# EAGLE library part ACS*? (library Display_LED)
Single Digit Numeric Display - 7-SEG, (0.2”, 0.3, 0.4, 0.8”) Character size, RED 10SMD 0.2 inch: Common Anode Datasheet <https://www.kingbrightusa.com/images/catalog/SPEC/ACSA02-41SURKWA-F01.pdf> and Common Cathode Datasheet <https://www.kingbrightusa.com/images/catalog/SPEC/ACSC02-41SURKWA-F01.pdf> 0.3 inch: Common Anode Datasheet <https://www.kingbrightusa.com/images/catalog/SPEC/ACSA03-41SRWA-F01.pdf> and Common Cathode Datasheet <https://www.kingbrightusa.com/images/catalog/SPEC/ACSC03-41SRWA-F01.pdf> 0.4 inch: Common Anode Datasheet <https://www.kingbrightusa.com/images/catalog/SPEC/ACSA04-41SRWA-F01.pdf> and Common Cathode Datasheet <https://www.kingbrightusa.com/images/catalog/SPEC/ACSC04-41SRWA-F01.pdf> 0.8 inch: Common Anode Datasheet <https://www.kingbrightusa.com/images/catalog/SPEC/ACSA08-51SURKWA.pdf> and Common Cathode Datasheet <https://www.kingbrightusa.com/images/catalog/SPEC/ACSC08-51SURKWA.pdf>
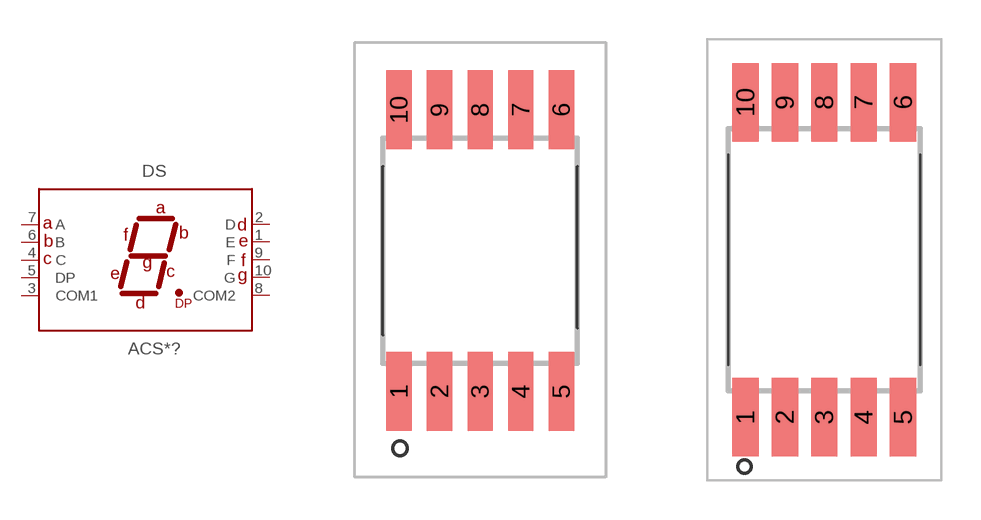
[diagram p3: symbol with the pads of ACSA0241SURKWAF01; footprints ACSA0241SURKWAF01, ACSA0341SRWAF01]

Designator prefix DS

## ACSA02-41SURKWA-F01 (CATEGORY: Display; COLOUR: RED; CONFIGURATION: COMMON ANODE; DESCRIPTION: DISPLAY 7-SEG 0.2" SGL RED 10SMD; DIGIT: Single; DIGIT_HEIGHT: 0.2inch; MANUFACTURER: Kingbright; MPN: ACSA02-41SURKWA-F01; OPERATING_TEMPERATURE: -40°C To +85°C; PART_STATUS: ACTIVE; ROHS_COMPLIANT: COMPLIANT; SERIES: -; SUB_CATEGORY: LED; TYPE: 7-Segment; VALUE: ACSA02-41), ACSC02-41SURKWA-F01 (CATEGORY: Display; COLOUR: RED; CONFIGURATION: COMMON CATHODE; DESCRIPTION: DISPLAY 7-SEG 0.2" SGL RED 10SMD; DIGIT: Single; DIGIT_HEIGHT: 0.2inch; MANUFACTURER: Kingbright; MPN: ACSC02-41SURKWA-F01; OPERATING_TEMPERATURE: -40°C To +85°C; PART_STATUS: ACTIVE; ROHS_COMPLIANT: COMPLIANT; SERIES: -; SUB_CATEGORY: LED; TYPE: 7-Segment; VALUE: ACSC02-41)  [ACSA0241SURKWAF01]
1  E
2  D
3  COM1
4  C
5  DP
6  B
7  A
8  COM2
9  F
10  G

## ACSA03-41SRWA-F01 (CATEGORY: Display; COLOUR: RED; CONFIGURATION: COMMON ANODE; DIGIT: Single; DIGIT_HEIGHT: 0.3inch; MANUFACTURER: Kingbright; MPN: ACSA03-41SRWA-F01; OPERATING_TEMPERATURE: -40°C To +85°C; PART_STATUS: ACTIVE; ROHS_COMPLIANT: COMPLIANT; SERIES: -; SUB_CATEGORY: LED; TYPE: 7-Segment; VALUE: ACSA03-41), ACSC03-41SRWA-F01 (CATEGORY: Display; COLOUR: RED; CONFIGURATION: COMMON CATHODE; DIGIT: Single; DIGIT_HEIGHT: 0.3inch; MANUFACTURER: Kingbright; MPN: ACSC03-41SRWA-F01; OPERATING_TEMPERATURE: -40°C To +85°C; PART_STATUS: ACTIVE; ROHS_COMPLIANT: COMPLIANT; SERIES: -; SUB_CATEGORY: LED; TYPE: 7-Segment; VALUE: ACSC03-41)  [ACSA0341SRWAF01]
Pads as for ACSA0241SURKWAF01

## ACSA04-41SRWA-F01 (CATEGORY: Display; COLOUR: RED; CONFIGURATION: Common Anode; DESCRIPTION: DISPLAY 7-SEG 0.4" SGL RED 10SMD; DIGIT: Single; DIGIT_HEIGHT: 0.4inch; MANUFACTURER: Kingbright; MPN: ACSA04-41SRWA-F01; OPERATING_TEMPERATURE: - 40 C to 85 C; PART_STATUS: ACTIVE; ROHS_COMPLIANT: COMPLIANT; SERIES: -; SUB_CATEGORY: LED; TYPE: 7-Segment; VALUE: ACSA04-41), ACSC04-41SRWA-F01 (CATEGORY: Display; COLOUR: RED; CONFIGURATION: Common Cathode; DESCRIPTION: DISPLAY 7-SEG 0.4" SGL RED 10SMD; DIGIT: Single; DIGIT_HEIGHT: 0.4inch; MANUFACTURER: Kingbright; MPN: ACSC04-41SRWA-F01; OPERATING_TEMPERATURE: - 40 C to 85 C; PART_STATUS: ACTIVE; ROHS_COMPLIANT: COMPLIANT; SERIES: -; SUB_CATEGORY: LED; TYPE: 7-Segment; VALUE: ACSC04-41)  [ACSA0441SRWAF01]
Pads as for ACSA0241SURKWAF01

## ACSA08-51SURKWA (CATEGORY: Displays; COLOUR: RED; CONFIGURATION: Common Anode; DESCRIPTION: DISPLAY 7-SEG 0.8" SGL RED 10SMD; DIGIT: Single; MANUFACTURER: Kingbright; MPN: ACSA08-51SURKWA; OPERATING_TEMPERATURE: -40 C to 85 C; PART_STATUS: ACTIVE; ROHS_COMPLIANT: COMPLIANT; SERIES: -; SUB_CATEGORY: LED; TYPE: 7-Segment; VALUE: ACSA08-51), ACSC08-51SURKWA (CATEGORY: Displays; COLOUR: RED; CONFIGURATION: Common Cathode; DESCRIPTION: DISPLAY 7-SEG 0.8" SGL RED 10SMD; DIGIT: Single; MANUFACTURER: Kingbright; MPN: ACSC08-51SURKWA; OPERATING_TEMPERATURE: -40 C to 85 C; PART_STATUS: ACTIVE; ROHS_COMPLIANT: COMPLIANT; SERIES: -; SUB_CATEGORY: LED; TYPE: 7-Segment; VALUE: ACSC08-51)  [ACSA0851SURKWA]
1  COM1
2  D
3  E
4  C
5  DP
6  COM2
7  A
8  B
9  F
10  G

## Footprint ACSA0241SURKWAF01 (pad centres in mm)
ACSA02-41SURKWA-F01-1
smd 0.9 x 2.8: 1 -2.88,-5; 2 -1.44,-5; 3 0,-5; 4 1.44,-5; 5 2.88,-5; 6 2.88,5; 7 1.44,5; 8 0,5; 9 -1.44,5; 10 -2.88,5

## Footprint ACSA0341SRWAF01 (pad centres in mm)
ACSA02-41SURKWA-F01-1
smd 1 x 3: 1 -3,-6; 2 -1.5,-6; 3 0,-6; 4 1.5,-6; 5 3,-6; 6 3,6; 7 1.5,6; 8 0,6; 9 -1.5,6; 10 -3,6

## Footprint ACSA0441SRWAF01 (pad centres in mm)
ACSA02-41SURKWA-F01-1
smd 1.2 x 3: 1 -3.76,-7.5; 2 -1.88,-7.5; 3 0,-7.5; 4 1.88,-7.5; 5 3.76,-7.5; 6 3.76,7.5; 7 1.88,7.5; 8 0,7.5; 9 -1.88,7.5; 10 -3.76,7.5

## Footprint ACSA0851SURKWA (pad centres in mm)
ACSA02-41SURKWA-F01-1
smd 1.7 x 4: 1 -5.08,-13.8; 2 -2.54,-13.8; 3 0,-13.8; 4 2.54,-13.8; 5 5.08,-13.8; 6 5.08,13.8; 7 2.54,13.8; 8 0,13.8; 9 -2.54,13.8; 10 -5.08,13.8